# Altium integrated library Farhan.IntLib: 49 symbols
Pins are listed as number, name and electrical type; pins without a type are passive.

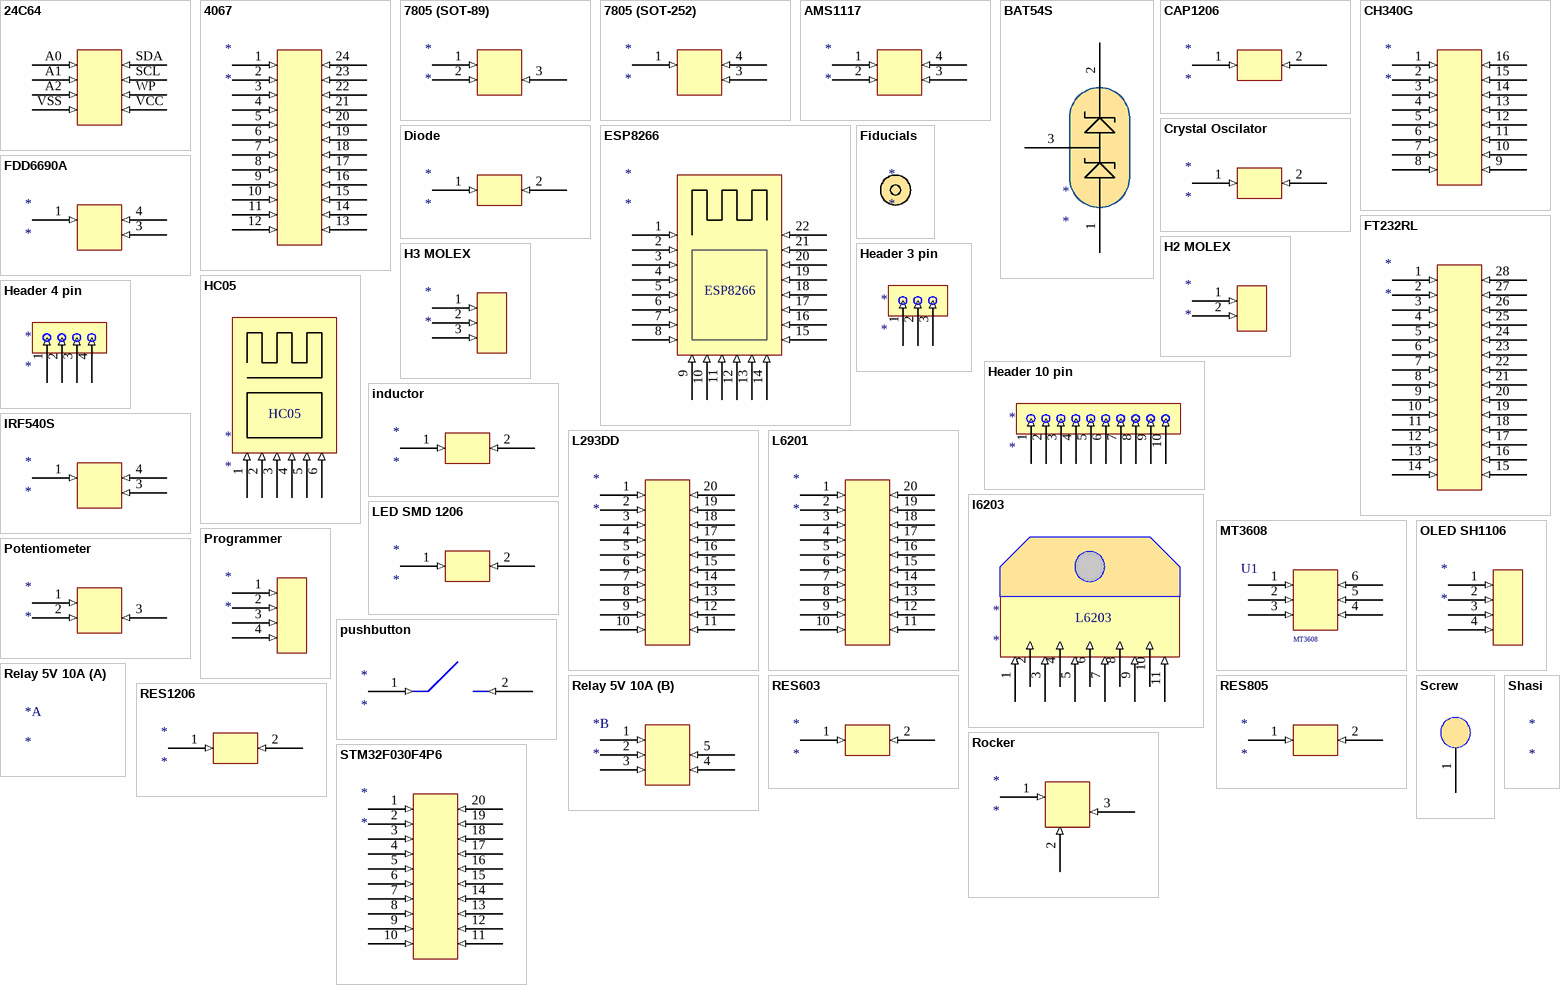
[diagram p0: symbols 24C64 to STM32F030F4P6]

## 24C64
designator ?
24C64 / 64KB eeprom memory
footprint 24C64 (SOIC, 8-Leads, Body 5.21x5.28mm, Pitch 1.27mm, IPC Medium Density); pin to pad A0>1 A1>2 A2>3 SCL>7 SDA>8 VCC>5 VSS>4 WP>6
pins: A0 (in), A1 (in), A2 (in), SCL (in), SDA (in), VCC (in), VSS (in), WP (in)

## 4067
designator *
footprint 4067 (SOP, 24-Leads, Body 15.40x7.50mm, Pitch 1.27mm, IPC Medium Density)
pins: 1 (in), 2 (in), 3 (in), 4 (in), 5 (in), 6 (in), 7 (in), 8 (in), 9 (in), 10 (in), 11 (in), 12 (in), 13 (in), 14 (in), 15 (in), 16 (in), 17 (in), 18 (in), 19 (in), 20 (in), 21 (in), 22 (in), 23 (in), 24 (in)

## 7805 (SOT-89)
designator *
footprint 7805 (SOT-89) (SOT89, 3-Leads, Body 4.50x2.45mm, Pitch 1.50mm, Lead Span 4.1mm, IPC Medium Density)
pins: 1 (in), 2 (in), 3 (in)

## 7805 (SOT-252)
designator *
footprint 7805 (SOT-252) (D-PAK, 3-Pads, Body 6.25x6.71mm (max), IPC Medium Density)
pins: 1 (in), 3 (in), 4 (in)

## AMS1117
designator *
footprint AMS1117 (SOT223, 4-Leads, Body 6.30x7.00mm (avg), Pitch 2.30mm, IPC Medium Density)
pins: 1 (in), 2 (in), 3 (in), 4 (in)

## BAT54S
designator *
footprint BAT54S (SOT23, 3-Leads, Body 2.90x2.30mm, Pitch 0.95mm, IPC Medium Density)
pins: 1, 2, 3

## CAP1206
designator *
footprint CAP1206 (Chip Capacitor, 2-Leads, Body 3.20x1.60mm, IPC Medium Density)
pins: 1 (in), 2 (in)

## CH340G
designator *
footprint CH340G (SOIC, 16-Leads, Body 10.40x5.30mm, Pitch 1.27mm, IPC Medium Density)
pins: 1 (in), 2 (in), 3 (in), 4 (in), 5 (in), 6 (in), 7 (in), 8 (in), 9 (in), 10 (in), 11 (in), 12 (in), 13 (in), 14 (in), 15 (in), 16 (in)

## Crystal Oscilator
designator *
footprint Crystal Oscilator
pins: 1 (in), 2 (in)

## Diode
designator *
footprint Diode
pins: 1 (in), 2 (in)

## ESP8266
designator *
footprint ESP8266
pins: 1 (in), 2 (in), 3 (in), 4 (in), 5 (in), 6 (in), 7 (in), 8 (in), 9 (in), 10 (in), 11 (in), 12 (in), 13 (in), 14 (in), 15 (in), 16 (in), 17 (in), 18 (in), 19 (in), 20 (in), 21 (in), 22 (in)

## FDD6690A
designator *
footprint FDD6690A (D-PAK, 3-Pads, Body 5.85x6.66mm (max), IPC Medium Density)
pins: 1 (in), 3 (in), 4 (in)

## Fiducials
designator *
footprint Fiducials

## FT232RL
designator *
footprint FT232RL (SOP, 28-Leads, Body 10.28x5.30mm, Pitch 0.65mm, IPC Medium Density)
pins: 1 (in), 2 (in), 3 (in), 4 (in), 5 (in), 6 (in), 7 (in), 8 (in), 9 (in), 10 (in), 11 (in), 12 (in), 13 (in), 14 (in), 15 (in), 16 (in), 17 (in), 18 (in), 19 (in), 20 (in), 21 (in), 22 (in), 23 (in), 24 (in), 25 (in), 26 (in), 27 (in), 28 (in)

## H2 MOLEX
designator *
footprint H2 MOLEX
footprint H2 MOLEX ANGLE
pins: 1 (in), 2 (in)

## H3 MOLEX
designator *
footprint H3 MOLEX
pins: 1 (in), 2 (in), 3 (in)

## HC05
designator *
footprint HC05
pins: 1 (in), 2 (in), 3 (in), 4 (in), 5 (in), 6 (in)

## Header 3 pin
designator *
footprint header 3 pin
pins: 1 (in), 2 (in), 3 (in)

## Header 4 pin
designator *
footprint Header 4 pin
pins: 1 (in), 2 (in), 3 (in), 4 (in)

## Header 10 pin
designator *
footprint Header 10 pin
pins: 1 (in), 2 (in), 3 (in), 4 (in), 5 (in), 6 (in), 7 (in), 8 (in), 9 (in), 10 (in)

## inductor
designator *
footprint inductor
pins: 1 (in), 2 (in)

## IRF540S
designator *
footprint IRF540S (D2-PAK, 3-Pads, Body 7.93x8.70mm (max), IPC Medium Density)
pins: 1 (in), 3 (in), 4 (in)

## L293DD
designator *
footprint L293DD (SOP, 20-Leads, Body 12.80x7.50mm, Pitch 1.27mm, IPC Medium Density)
pins: 1 (in), 2 (in), 3 (in), 4 (in), 5 (in), 6 (in), 7 (in), 8 (in), 9 (in), 10 (in), 11 (in), 12 (in), 13 (in), 14 (in), 15 (in), 16 (in), 17 (in), 18 (in), 19 (in), 20 (in)

## L6201
designator *
footprint L6201 (SOP, 20-Leads, Body 12.80x7.50mm, Pitch 1.27mm, IPC Medium Density)
pins: 1 (in), 2 (in), 3 (in), 4 (in), 5 (in), 6 (in), 7 (in), 8 (in), 9 (in), 10 (in), 11 (in), 12 (in), 13 (in), 14 (in), 15 (in), 16 (in), 17 (in), 18 (in), 19 (in), 20 (in)

## l6203
designator *
footprint L6203
footprint L6203 Strait
pins: 1 (in), 2 (in), 3 (in), 4 (in), 5 (in), 6 (in), 7 (in), 8 (in), 9 (in), 10 (in), 11 (in)
text: L6203

## LED SMD 1206
designator *
footprint LED BLUE 1206
footprint LED RED 1206
footprint LED GREEN 1206
pins: 1 (in), 2 (in)

## MT3608
designator U1
footprint MT3608 (SOT23, 6-Leads, Body 2.90x2.80mm, Pitch 0.95mm, IPC Medium Density)
pins: 1 (in), 2 (in), 3 (in), 4 (in), 5 (in), 6 (in)

## OLED SH1106
designator *
footprint OLED SH1106
pins: 1 (in), 2 (in), 3 (in), 4 (in)

## Potentiometer
designator *
footprint potentiometer
pins: 1 (in), 2 (in), 3 (in)

## Programmer
designator *
footprint PROGRAMER
pins: 1 (in), 2 (in), 3 (in), 4 (in)

## pushbutton
designator *
footprint pushbutton
pins: 1 (in), 2 (in)

## Relay 5V 10A
designator *
footprint Relay 5V 10A
part B pins: 1 (in), 2 (in), 3 (in), 4 (in), 5 (in)

## RES603
designator *
footprint RES603
pins: 1 (in), 2 (in)

## RES805
designator *
footprint RES805
pins: 1 (in), 2 (in)

## RES1206
designator *
footprint RES1206
pins: 1 (in), 2 (in)

## Rocker
designator *
footprint rocker
pins: 1 (in), 2 (in), 3 (in)

## Screw
designator ?  (value not drawn)  (mechanical)
footprint SCREW
pins: 1

## Shasi
designator *
footprint Shasi

## STM32F030F4P6
designator *
footprint STM32F030F4P6 (TSOP, 20-Leads, Body 6.50x4.40mm, Pitch 0.65mm, IPC Medium Density)
pins: 1 (in), 2 (in), 3 (in), 4 (in), 5 (in), 6 (in), 7 (in), 8 (in), 9 (in), 10 (in), 11 (in), 12 (in), 13 (in), 14 (in), 15 (in), 16 (in), 17 (in), 18 (in), 19 (in), 20 (in)

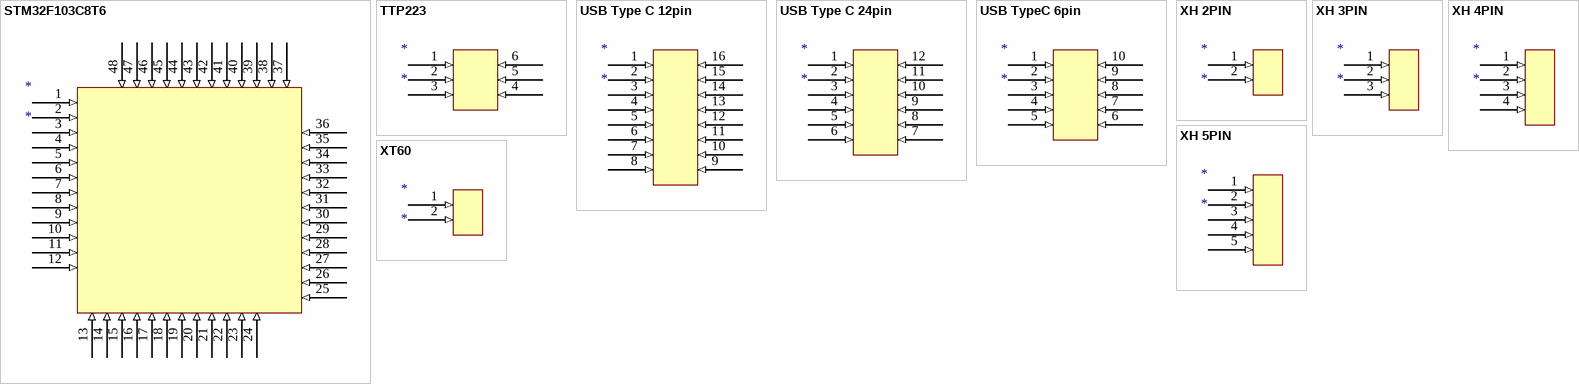
[diagram p1: symbols STM32F103C8T6 to XT60]

## STM32F103C8T6
designator *
footprint STM32F103C8T6 (TSQFP, 48-Leads, Body 7.00x7.00mm, Pitch 0.50mm, IPC Medium Density)
pins: 1 (in), 2 (in), 3 (in), 4 (in), 5 (in), 6 (in), 7 (in), 8 (in), 9 (in), 10 (in), 11 (in), 12 (in), 13 (in), 14 (in), 15 (in), 16 (in), 17 (in), 18 (in), 19 (in), 20 (in), 21 (in), 22 (in), 23 (in), 24 (in), 25 (in), 26 (in), 27 (in), 28 (in), 29 (in), 30 (in), 31 (in), 32 (in), 33 (in), 34 (in), 35 (in), 36 (in), 37 (in), 38 (in), 39 (in), 40 (in), 41 (in), 42 (in), 43 (in), 44 (in), 45 (in), 46 (in), 47 (in), 48 (in)

## TTP223
designator *
footprint TTP223 (SOT23, 6-Leads, Body 2.90x2.85mm, Pitch 0.95mm, IPC Medium Density)
pins: 1 (in), 2 (in), 3 (in), 4 (in), 5 (in), 6 (in)

## USB Type C 12pin
designator *
footprint USB Type C 12pin
pins: 1 (in), 2 (in), 3 (in), 4 (in), 5 (in), 6 (in), 7 (in), 8 (in), 9 (in), 10 (in), 11 (in), 12 (in), 13 (in), 14 (in), 15 (in), 16 (in)

## USB Type C 24pin
designator *
footprint USB Type C 24pin
pins: 1 (in), 2 (in), 3 (in), 4 (in), 5 (in), 6 (in), 7 (in), 8 (in), 9 (in), 10 (in), 11 (in), 12 (in)

## USB TypeC 6pin
designator *
footprint USB Type C 6pin
pins: 1 (in), 2 (in), 3 (in), 4 (in), 5 (in), 6 (in), 7 (in), 8 (in), 9 (in), 10 (in)

## XH 2PIN
designator *
footprint XH 2pin
pins: 1 (in), 2 (in)

## XH 3PIN
designator *
footprint XH 3PIN
pins: 1 (in), 2 (in), 3 (in)

## XH 4PIN
designator *
footprint XH 4PIN
pins: 1 (in), 2 (in), 3 (in), 4 (in)

## XH 5PIN
designator *
footprint XH 5PIN
pins: 1 (in), 2 (in), 3 (in), 4 (in), 5 (in)

## XT60
designator *
footprint XT60
pins: 1 (in), 2 (in)